# Altium integrated library Texas Instruments Power Management PWM Controller.IntLib: 1227 symbols (part 35 of 49)
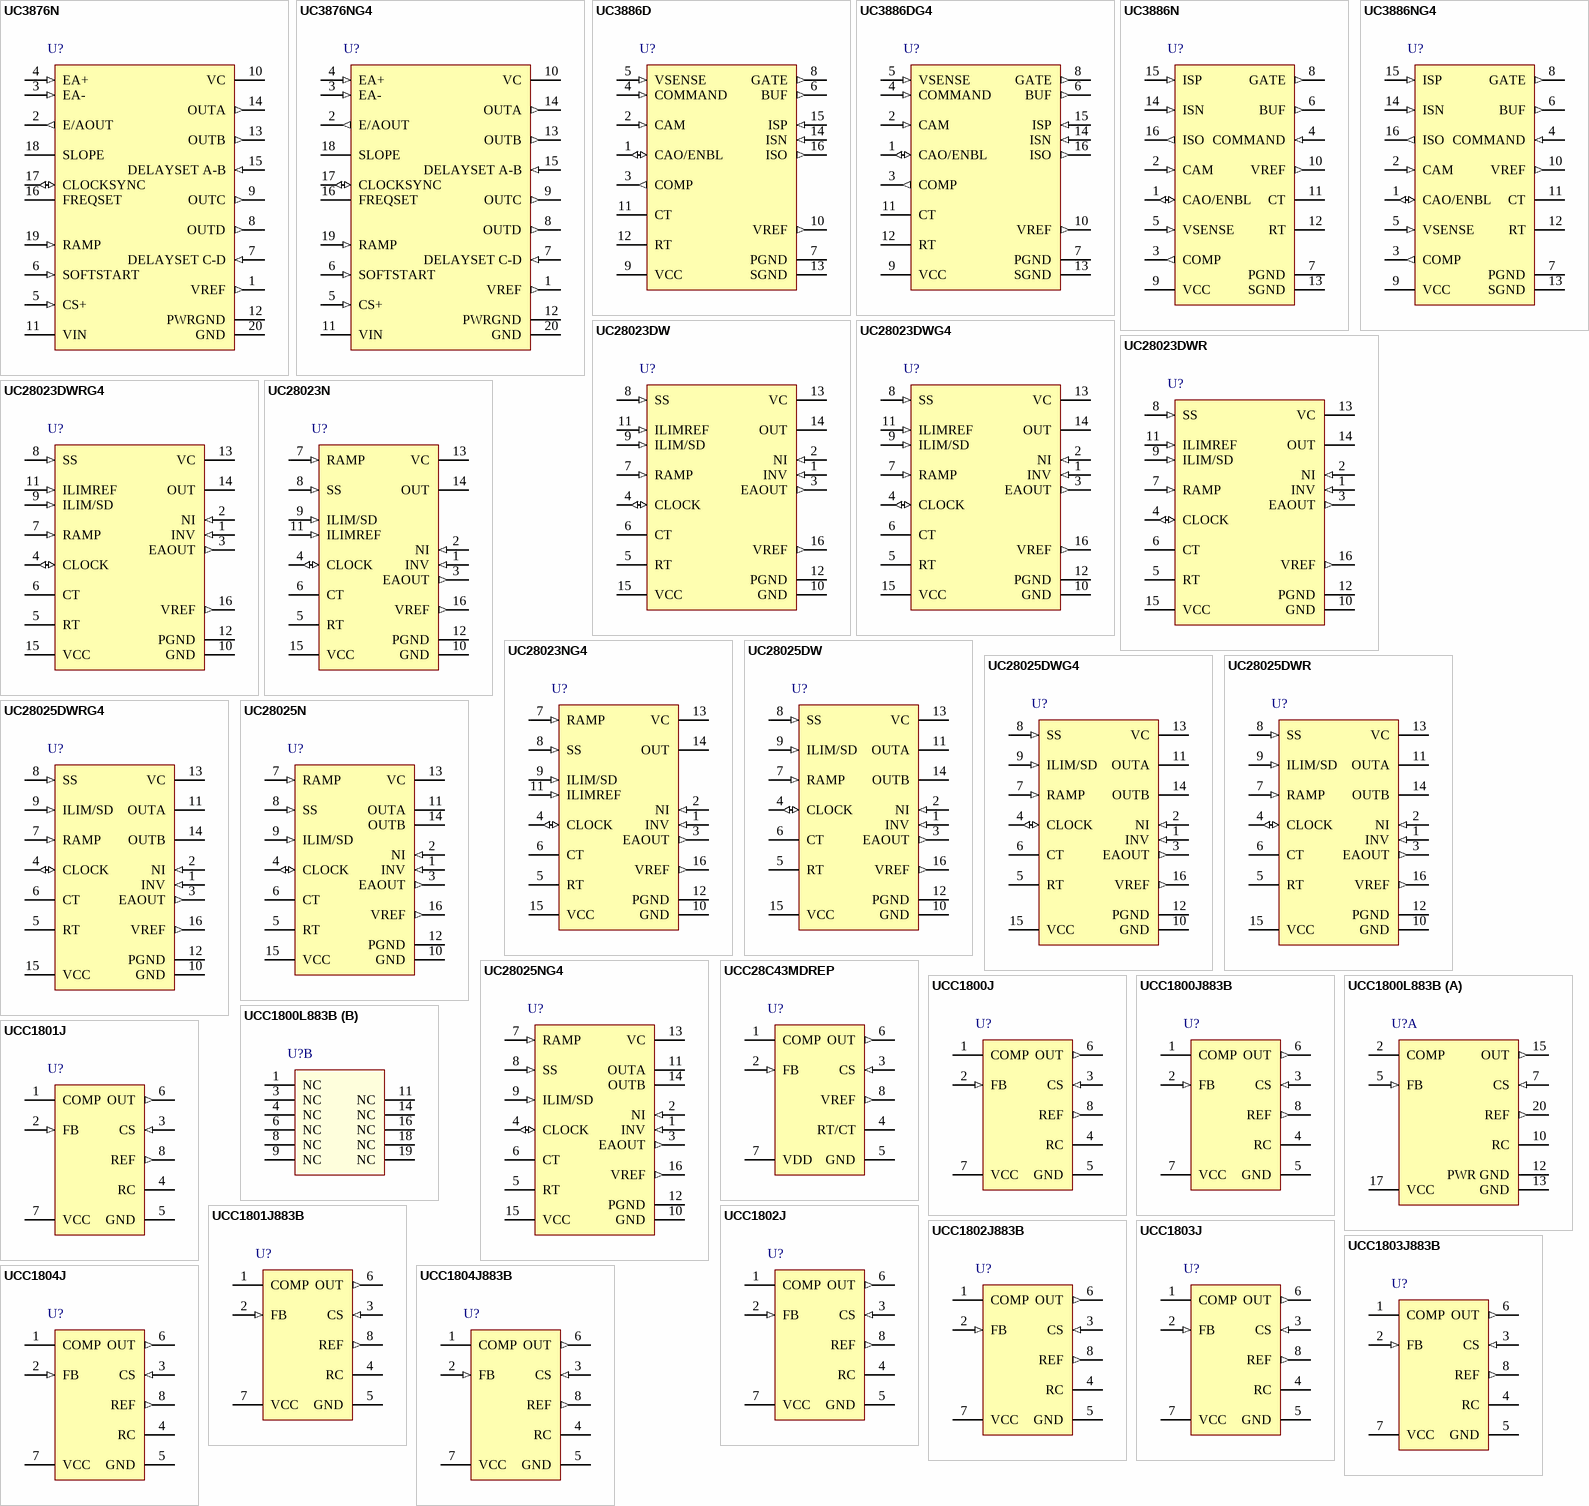
[diagram p77: symbols UC3876N to UCC1804J883B]

## UCC1800J
designator U?
Low-Power BiCMOS PWM with Current Control, 100 % Duty Cycle, -55 to +125 degC, 8-pin CDIP (JG); PartNumber: UCC1800J; Manufacturer: Texas Instruments; Duty Cycle(Max)(%): 100; Eco-Plan: TBD; Frequency(Max)(kHz): 1000; Rating: Military; Regulated Outputs(#): 1; SubFamily: PWM Controller; Topology: Boost, Flyback, Forward; UVLO Thresholds On/Off(V): 7.2/6.9; DatasheetVersion: SLUS270D; PackageVersion: revC, Aug-1996; PackageReference: JG8; PackageDescription: 8-Pin Ceramic Dual-In-Line Package, Row Spacing 7.62 mm, Pitch 2.54 mm; Control Method: Current; Mounting Technology: Through Hole; ComponentLink1Description: Datasheet; ComponentLink1URL: http://www.ti.com/general/docs/lit/getliterature.tsp?genericPartNumber=UCC1800&fileType=pdf
footprint JG8 (DIP, 8-Leads, Row Spacing 7.62mm, Pitch 2.54mm, Body 9.6x6.7mm)
pins: 1 COMP "COMP is the output of the error amplifier and the input of the PWM comparator.", 2 FB (in) "FB is the inverting input of the error amplifier.For best stability,keep FB lead length as short as possible and FB stray capacitance as small as possible.", 3 CS (in) "CS is the input to the current sense comparators.The UCC3800 family has two different current sense comparators:the PWM comparator and an over-current comparator.", 4 RC "RC is the oscillator timing pin.For fixed frequency operation,set timing capacitor charging current by connecting a resistor from REF to RC.Set frequency by connecting a timing capacitor from RC to GND.", 5 GND (power) "GND is reference ground and power ground for all functions on this part.", 6 OUT (out) "OUT is the output of a high-current power driver capable of driving the gate of a power MOSFET with peak currents exceeding +/-750mA.OUT is actively held low when VCC is below the UVLO threshold.", 7 VCC (power) "VCC is the power input connection for this device.", 8 REF (out) "REF is the voltage reference for the error amplifier and also for many other functions on the IC.REF is also used as the logic power supply for high speed switching logic on the IC."

## UCC1800J883B
designator U?
Low-Power BiCMOS PWM with Current Control, 100 % Duty Cycle, -55 to +125 degC, 8-pin CDIP (JG); PartNumber: UCC1800J883B; Manufacturer: Texas Instruments; Duty Cycle(Max)(%): 100; Eco-Plan: TBD; Frequency(Max)(kHz): 1000; Rating: Military; Regulated Outputs(#): 1; SubFamily: PWM Controller; Topology: Boost, Flyback, Forward; UVLO Thresholds On/Off(V): 7.2/6.9; DatasheetVersion: SLUS270D; PackageVersion: revC, Aug-1996; PackageReference: JG8; PackageDescription: 8-Pin Ceramic Dual-In-Line Package, Row Spacing 7.62 mm, Pitch 2.54 mm; Control Method: Current; Mounting Technology: Through Hole; ComponentLink1Description: Datasheet; ComponentLink1URL: http://www.ti.com/general/docs/lit/getliterature.tsp?genericPartNumber=UCC1800&fileType=pdf
footprint JG8 (DIP, 8-Leads, Row Spacing 7.62mm, Pitch 2.54mm, Body 9.6x6.7mm)
pins: 1 COMP "COMP is the output of the error amplifier and the input of the PWM comparator.", 2 FB (in) "FB is the inverting input of the error amplifier.For best stability,keep FB lead length as short as possible and FB stray capacitance as small as possible.", 3 CS (in) "CS is the input to the current sense comparators.The UCC3800 family has two different current sense comparators:the PWM comparator and an over-current comparator.", 4 RC "RC is the oscillator timing pin.For fixed frequency operation,set timing capacitor charging current by connecting a resistor from REF to RC.Set frequency by connecting a timing capacitor from RC to GND.", 5 GND (power) "GND is reference ground and power ground for all functions on this part.", 6 OUT (out) "OUT is the output of a high-current power driver capable of driving the gate of a power MOSFET with peak currents exceeding +/-750mA.OUT is actively held low when VCC is below the UVLO threshold.", 7 VCC (power) "VCC is the power input connection for this device.", 8 REF (out) "REF is the voltage reference for the error amplifier and also for many other functions on the IC.REF is also used as the logic power supply for high speed switching logic on the IC."

## UCC1800L883B
designator U?
Low-Power BiCMOS PWM with Current Control, 100 % Duty Cycle, -55 to +125 degC, 20-pin LCCC (FK); PartNumber: UCC1800L883B; Manufacturer: Texas Instruments; Duty Cycle(Max)(%): 100; Eco-Plan: TBD; Frequency(Max)(kHz): 1000; Rating: Military; Regulated Outputs(#): 1; SubFamily: PWM Controller; Topology: Boost, Flyback, Forward; UVLO Thresholds On/Off(V): 7.2/6.9; DatasheetVersion: SLUS270D; PackageVersion: revD, Jan-2011; PackageReference: FK20; PackageDescription: 20-Pin Leadless Ceramic Chip Carrier, 1.27 mm Pitch; Control Method: Current; Mounting Technology: Surface Mount; Code_JEDEC: MS-004; ComponentLink1Description: Datasheet; ComponentLink1URL: http://www.ti.com/general/docs/lit/getliterature.tsp?genericPartNumber=UCC1800&fileType=pdf
footprint FK20_N (Leadless Chip Carrier, 20-Leads, Body 8.9x8.9mm, Pitch 1.27mm, IPC Medium Density)
footprint FK20_L (Leadless Chip Carrier, 20-Leads, Body 8.9x8.9mm, Pitch 1.27mm, IPC High Density)
footprint FK20_M (Leadless Chip Carrier, 20-Leads, Body 8.9x8.9mm, Pitch 1.27mm, IPC Low Density)
part A pins: 2 COMP "COMP is the output of the error amplifier and the input of the PWM comparator.", 5 FB (in) "FB is the inverting input of the error amplifier.For best stability,keep FB lead length as short as possible and FB stray capacitance as small as possible.", 7 CS (in) "CS is the input to the current sense comparators.The UCC3800 family has two different current sense comparators:the PWM comparator and an over-current comparator.", 10 RC "RC is the oscillator timing pin.For fixed frequency operation,set timing capacitor charging current by connecting a resistor from REF to RC.Set frequency by connecting a timing capacitor from RC to GND.", 12 PWR GND (power), 13 GND (power) "GND is reference ground and power ground for all functions on this part.", 15 OUT (out) "OUT is the output of a high-current power driver capable of driving the gate of a power MOSFET with peak currents exceeding +/-750mA.OUT is actively held low when VCC is below the UVLO threshold.", 17 VCC (power) "VCC is the power input connection for this device.", 20 REF (out) "REF is the voltage reference for the error amplifier and also for many other functions on the IC.REF is also used as the logic power supply for high speed switching logic on the IC."
part B pins: 1 NC "Not connect.", 3 NC "Not connect.", 4 NC "Not connect.", 6 NC "Not connect.", 8 NC "Not connect.", 9 NC "Not connect.", 11 NC "Not connect.", 14 NC "Not connect.", 16 NC "Not connect.", 18 NC "Not connect.", 19 NC "Not connect."

## UCC1801J
designator U?
Low-Power BiCMOS PWM with Current control, 50 % Duty Cycle, -55 to +125 degC, 8-pin CDIP (JG); PartNumber: UCC1801J; Manufacturer: Texas Instruments; Duty Cycle(Max)(%): 50; Eco-Plan: TBD; Frequency(Max)(kHz): 1000; Rating: Military; Regulated Outputs(#): 1; SubFamily: PWM Controller; Topology: Boost, Flyback, Forward; UVLO Thresholds On/Off(V): 9.4/7.4; DatasheetVersion: SLUS270D; PackageVersion: revC, Aug-1996; PackageReference: JG8; PackageDescription: 8-Pin Ceramic Dual-In-Line Package, Row Spacing 7.62 mm, Pitch 2.54 mm; Control Method: Current; Mounting Technology: Through Hole; ComponentLink1Description: Datasheet; ComponentLink1URL: http://www.ti.com/general/docs/lit/getliterature.tsp?genericPartNumber=UCC1801&fileType=pdf
footprint JG8 (DIP, 8-Leads, Row Spacing 7.62mm, Pitch 2.54mm, Body 9.6x6.7mm)
pins: 1 COMP "COMP is the output of the error amplifier and the input of the PWM comparator.", 2 FB (in) "FB is the inverting input of the error amplifier.For best stability,keep FB lead length as short as possible and FB stray capacitance as small as possible.", 3 CS (in) "CS is the input to the current sense comparators.The UCC3800 family has two different current sense comparators:the PWM comparator and an over-current comparator.", 4 RC "RC is the oscillator timing pin.For fixed frequency operation,set timing capacitor charging current by connecting a resistor from REF to RC.Set frequency by connecting a timing capacitor from RC to GND.", 5 GND (power) "GND is reference ground and power ground for all functions on this part.", 6 OUT (out) "OUT is the output of a high-current power driver capable of driving the gate of a power MOSFET with peak currents exceeding +/-750mA.OUT is actively held low when VCC is below the UVLO threshold.", 7 VCC (power) "VCC is the power input connection for this device.", 8 REF (out) "REF is the voltage reference for the error amplifier and also for many other functions on the IC.REF is also used as the logic power supply for high speed switching logic on the IC."

## UCC1801J883B
designator U?
Low-Power BiCMOS PWM with Current Control, 50 % Duty Cycle, -55 to +125 degC, 8-pin CDIP (JG); PartNumber: UCC1801J883B; Manufacturer: Texas Instruments; Duty Cycle(Max)(%): 50; Eco-Plan: TBD; Frequency(Max)(kHz): 1000; Rating: Military; Regulated Outputs(#): 1; SubFamily: PWM Controller; Topology: Boost, Flyback, Forward; UVLO Thresholds On/Off(V): 9.4/7.4; DatasheetVersion: SLUS270D; PackageVersion: revC, Aug-1996; PackageReference: JG8; PackageDescription: 8-Pin Ceramic Dual-In-Line Package, Row Spacing 7.62 mm, Pitch 2.54 mm; Control Method: Current; Mounting Technology: Through Hole; ComponentLink1Description: Datasheet; ComponentLink1URL: http://www.ti.com/general/docs/lit/getliterature.tsp?genericPartNumber=UCC1801&fileType=pdf
footprint JG8 (DIP, 8-Leads, Row Spacing 7.62mm, Pitch 2.54mm, Body 9.6x6.7mm)
pins: 1 COMP "COMP is the output of the error amplifier and the input of the PWM comparator.", 2 FB (in) "FB is the inverting input of the error amplifier.For best stability,keep FB lead length as short as possible and FB stray capacitance as small as possible.", 3 CS (in) "CS is the input to the current sense comparators.The UCC3800 family has two different current sense comparators:the PWM comparator and an over-current comparator.", 4 RC "RC is the oscillator timing pin.For fixed frequency operation,set timing capacitor charging current by connecting a resistor from REF to RC.Set frequency by connecting a timing capacitor from RC to GND.", 5 GND (power) "GND is reference ground and power ground for all functions on this part.", 6 OUT (out) "OUT is the output of a high-current power driver capable of driving the gate of a power MOSFET with peak currents exceeding +/-750mA.OUT is actively held low when VCC is below the UVLO threshold.", 7 VCC (power) "VCC is the power input connection for this device.", 8 REF (out) "REF is the voltage reference for the error amplifier and also for many other functions on the IC.REF is also used as the logic power supply for high speed switching logic on the IC."

## UCC1802J
designator U?
Low-Power BiCMOS PWM with Current Control, 100 % Duty Cycle, -55 to +125 degC, 8-pin CDIP (JG); PartNumber: UCC1802J; Manufacturer: Texas Instruments; Duty Cycle(Max)(%): 100; Eco-Plan: TBD; Frequency(Max)(kHz): 1000; Rating: Military; Regulated Outputs(#): 1; SubFamily: PWM Controller; Topology: Boost, Flyback, Forward; UVLO Thresholds On/Off(V): 12.5/8.3; DatasheetVersion: SLUS270D; PackageVersion: revC, Aug-1996; PackageReference: JG8; PackageDescription: 8-Pin Ceramic Dual-In-Line Package, Row Spacing 7.62 mm, Pitch 2.54 mm; Control Method: Current; Mounting Technology: Through Hole; ComponentLink1Description: Datasheet; ComponentLink1URL: http://www.ti.com/general/docs/lit/getliterature.tsp?genericPartNumber=UCC1802&fileType=pdf
footprint JG8 (DIP, 8-Leads, Row Spacing 7.62mm, Pitch 2.54mm, Body 9.6x6.7mm)
pins: 1 COMP "COMP is the output of the error amplifier and the input of the PWM comparator.", 2 FB (in) "FB is the inverting input of the error amplifier.For best stability,keep FB lead length as short as possible and FB stray capacitance as small as possible.", 3 CS (in) "CS is the input to the current sense comparators.The UCC3800 family has two different current sense comparators:the PWM comparator and an over-current comparator.", 4 RC "RC is the oscillator timing pin.For fixed frequency operation,set timing capacitor charging current by connecting a resistor from REF to RC.Set frequency by connecting a timing capacitor from RC to GND.", 5 GND (power) "GND is reference ground and power ground for all functions on this part.", 6 OUT (out) "OUT is the output of a high-current power driver capable of driving the gate of a power MOSFET with peak currents exceeding +/-750mA.OUT is actively held low when VCC is below the UVLO threshold.", 7 VCC (power) "VCC is the power input connection for this device.", 8 REF (out) "REF is the voltage reference for the error amplifier and also for many other functions on the IC.REF is also used as the logic power supply for high speed switching logic on the IC."

## UCC1802J883B
designator U?
Low-Power BiCMOS PWM with Current Control, 100 % Duty Cycle, -55 to +125 degC, 8-pin CDIP (JG); PartNumber: UCC1802J883B; Manufacturer: Texas Instruments; Duty Cycle(Max)(%): 100; Eco-Plan: TBD; Frequency(Max)(kHz): 1000; Rating: Military; Regulated Outputs(#): 1; SubFamily: PWM Controller; Topology: Boost, Flyback, Forward; UVLO Thresholds On/Off(V): 12.5/8.3; DatasheetVersion: SLUS270D; PackageVersion: revC, Aug-1996; PackageReference: JG8; PackageDescription: 8-Pin Ceramic Dual-In-Line Package, Row Spacing 7.62 mm, Pitch 2.54 mm; Control Method: Current; Mounting Technology: Through Hole; ComponentLink1Description: Datasheet; ComponentLink1URL: http://www.ti.com/general/docs/lit/getliterature.tsp?genericPartNumber=UCC1802&fileType=pdf
footprint JG8 (DIP, 8-Leads, Row Spacing 7.62mm, Pitch 2.54mm, Body 9.6x6.7mm)
pins: 1 COMP "COMP is the output of the error amplifier and the input of the PWM comparator.", 2 FB (in) "FB is the inverting input of the error amplifier.For best stability,keep FB lead length as short as possible and FB stray capacitance as small as possible.", 3 CS (in) "CS is the input to the current sense comparators.The UCC3800 family has two different current sense comparators:the PWM comparator and an over-current comparator.", 4 RC "RC is the oscillator timing pin.For fixed frequency operation,set timing capacitor charging current by connecting a resistor from REF to RC.Set frequency by connecting a timing capacitor from RC to GND.", 5 GND (power) "GND is reference ground and power ground for all functions on this part.", 6 OUT (out) "OUT is the output of a high-current power driver capable of driving the gate of a power MOSFET with peak currents exceeding +/-750mA.OUT is actively held low when VCC is below the UVLO threshold.", 7 VCC (power) "VCC is the power input connection for this device.", 8 REF (out) "REF is the voltage reference for the error amplifier and also for many other functions on the IC.REF is also used as the logic power supply for high speed switching logic on the IC."

## UCC1803J
designator U?
Low-Power BiCMOS PWM with Current Control, 100 % Duty Cycle, -55 to +125 degC, 8-pin CDIP (JG); PartNumber: UCC1803J; Manufacturer: Texas Instruments; Duty Cycle(Max)(%): 100; Eco-Plan: TBD; Frequency(Max)(kHz): 1000; Rating: Military; Regulated Outputs(#): 1; SubFamily: PWM Controller; Topology: Boost, Flyback, Forward; UVLO Thresholds On/Off(V): 4.1/3.6; DatasheetVersion: SLUS270D; PackageVersion: revC, Aug-1996; PackageReference: JG8; PackageDescription: 8-Pin Ceramic Dual-In-Line Package, Row Spacing 7.62 mm, Pitch 2.54 mm; Control Method: Current; Mounting Technology: Through Hole; ComponentLink1Description: Datasheet; ComponentLink1URL: http://www.ti.com/general/docs/lit/getliterature.tsp?genericPartNumber=UCC1803&fileType=pdf
footprint JG8 (DIP, 8-Leads, Row Spacing 7.62mm, Pitch 2.54mm, Body 9.6x6.7mm)
pins: 1 COMP "COMP is the output of the error amplifier and the input of the PWM comparator.", 2 FB (in) "FB is the inverting input of the error amplifier.For best stability,keep FB lead length as short as possible and FB stray capacitance as small as possible.", 3 CS (in) "CS is the input to the current sense comparators.The UCC3800 family has two different current sense comparators:the PWM comparator and an over-current comparator.", 4 RC "RC is the oscillator timing pin.For fixed frequency operation,set timing capacitor charging current by connecting a resistor from REF to RC.Set frequency by connecting a timing capacitor from RC to GND.", 5 GND (power) "GND is reference ground and power ground for all functions on this part.", 6 OUT (out) "OUT is the output of a high-current power driver capable of driving the gate of a power MOSFET with peak currents exceeding +/-750mA.OUT is actively held low when VCC is below the UVLO threshold.", 7 VCC (power) "VCC is the power input connection for this device.", 8 REF (out) "REF is the voltage reference for the error amplifier and also for many other functions on the IC.REF is also used as the logic power supply for high speed switching logic on the IC."

## UCC1803J883B
designator U?
Low-Power BiCMOS PWM with Current Control, 100 % Duty Cycle, -55 to +125 degC, 8-pin CDIP (JG); PartNumber: UCC1803J883B; Manufacturer: Texas Instruments; Duty Cycle(Max)(%): 100; Eco-Plan: TBD; Frequency(Max)(kHz): 1000; Rating: Military; Regulated Outputs(#): 1; SubFamily: PWM Controller; Topology: Boost, Flyback, Forward; UVLO Thresholds On/Off(V): 4.1/3.6; DatasheetVersion: SLUS270D; PackageVersion: revC, Aug-1996; PackageReference: JG8; PackageDescription: 8-Pin Ceramic Dual-In-Line Package, Row Spacing 7.62 mm, Pitch 2.54 mm; Control Method: Current; Mounting Technology: Through Hole; ComponentLink1Description: Datasheet; ComponentLink1URL: http://www.ti.com/general/docs/lit/getliterature.tsp?genericPartNumber=UCC1803&fileType=pdf
footprint JG8 (DIP, 8-Leads, Row Spacing 7.62mm, Pitch 2.54mm, Body 9.6x6.7mm)
pins: 1 COMP "COMP is the output of the error amplifier and the input of the PWM comparator.", 2 FB (in) "FB is the inverting input of the error amplifier.For best stability,keep FB lead length as short as possible and FB stray capacitance as small as possible.", 3 CS (in) "CS is the input to the current sense comparators.The UCC3800 family has two different current sense comparators:the PWM comparator and an over-current comparator.", 4 RC "RC is the oscillator timing pin.For fixed frequency operation,set timing capacitor charging current by connecting a resistor from REF to RC.Set frequency by connecting a timing capacitor from RC to GND.", 5 GND (power) "GND is reference ground and power ground for all functions on this part.", 6 OUT (out) "OUT is the output of a high-current power driver capable of driving the gate of a power MOSFET with peak currents exceeding +/-750mA.OUT is actively held low when VCC is below the UVLO threshold.", 7 VCC (power) "VCC is the power input connection for this device.", 8 REF (out) "REF is the voltage reference for the error amplifier and also for many other functions on the IC.REF is also used as the logic power supply for high speed switching logic on the IC."

## UCC1804J
designator U?
Low-Power BiCMOS PWM with Current Control, 50 % Duty Cycle, -55 to +125 degC, 8-pin CDIP (JG); PartNumber: UCC1804J; Manufacturer: Texas Instruments; Duty Cycle(Max)(%): 50; Eco-Plan: TBD; Frequency(Max)(kHz): 1000; Rating: Military; Regulated Outputs(#): 1; SubFamily: PWM Controller; Topology: Boost, Flyback, Forward; UVLO Thresholds On/Off(V): 12.5/8.3; DatasheetVersion: SLUS270D; PackageVersion: revC, Aug-1996; PackageReference: JG8; PackageDescription: 8-Pin Ceramic Dual-In-Line Package, Row Spacing 7.62 mm, Pitch 2.54 mm; Control Method: Current; Mounting Technology: Through Hole; ComponentLink1Description: Datasheet; ComponentLink1URL: http://www.ti.com/general/docs/lit/getliterature.tsp?genericPartNumber=UCC1804&fileType=pdf
footprint JG8 (DIP, 8-Leads, Row Spacing 7.62mm, Pitch 2.54mm, Body 9.6x6.7mm)
pins: 1 COMP "COMP is the output of the error amplifier and the input of the PWM comparator", 2 FB (in) "FB is the inverting input of the error amplifier.For best stability,keep FB lead length as short as possible and FB stray capacitance as samll as possible", 3 CS (in) "CS is the input to the current sense comparators.The UCC3800 family has two different current sense comparators:the PWM comparator and an over-current comparator", 4 RC "RC is the oscillator timing pin", 5 GND (power) "GND is reference ground and power ground for all functions on this part", 6 OUT (out) "OUT is the output of a high-current power driver capable of driving the gate of a power MOSFET with peak currents excedding +/-750mA", 7 VCC (power) "The power input connect for this device", 8 REF (out) "The voltage reference for the error amplifier and also for many other functions on the IC"

## UCC1804J883B
designator U?
Low-Power BiCMOS PWM with Current Control, 50 % Duty Cycle, -55 to +125 degC, 8-pin CDIP (JG); PartNumber: UCC1804J883B; Manufacturer: Texas Instruments; Duty Cycle(Max)(%): 50; Eco-Plan: TBD; Frequency(Max)(kHz): 1000; Rating: Military; Regulated Outputs(#): 1; SubFamily: PWM Controller; Topology: Boost, Flyback, Forward; UVLO Thresholds On/Off(V): 12.5/8.3; DatasheetVersion: SLUS270D; PackageVersion: revC, Aug-1996; PackageReference: JG8; PackageDescription: 8-Pin Ceramic Dual-In-Line Package, Row Spacing 7.62 mm, Pitch 2.54 mm; Control Method: Current; Mounting Technology: Through Hole; ComponentLink1Description: Datasheet; ComponentLink1URL: http://www.ti.com/general/docs/lit/getliterature.tsp?genericPartNumber=UCC1804&fileType=pdf
footprint JG8 (DIP, 8-Leads, Row Spacing 7.62mm, Pitch 2.54mm, Body 9.6x6.7mm)
pins: 1 COMP "COMP is the output of the error amplifier and the input of the PWM comparator", 2 FB (in) "FB is the inverting input of the error amplifier.For best stability,keep FB lead length as short as possible and FB stray capacitance as samll as possible", 3 CS (in) "CS is the input to the current sense comparators.The UCC3800 family has two different current sense comparators:the PWM comparator and an over-current comparator", 4 RC "RC is the oscillator timing pin", 5 GND (power) "GND is reference ground and power ground for all functions on this part", 6 OUT (out) "OUT is the output of a high-current power driver capable of driving the gate of a power MOSFET with peak currents excedding +/-750mA", 7 VCC (power) "The power input connect for this device", 8 REF (out) "The voltage reference for the error amplifier and also for many other functions on the IC"

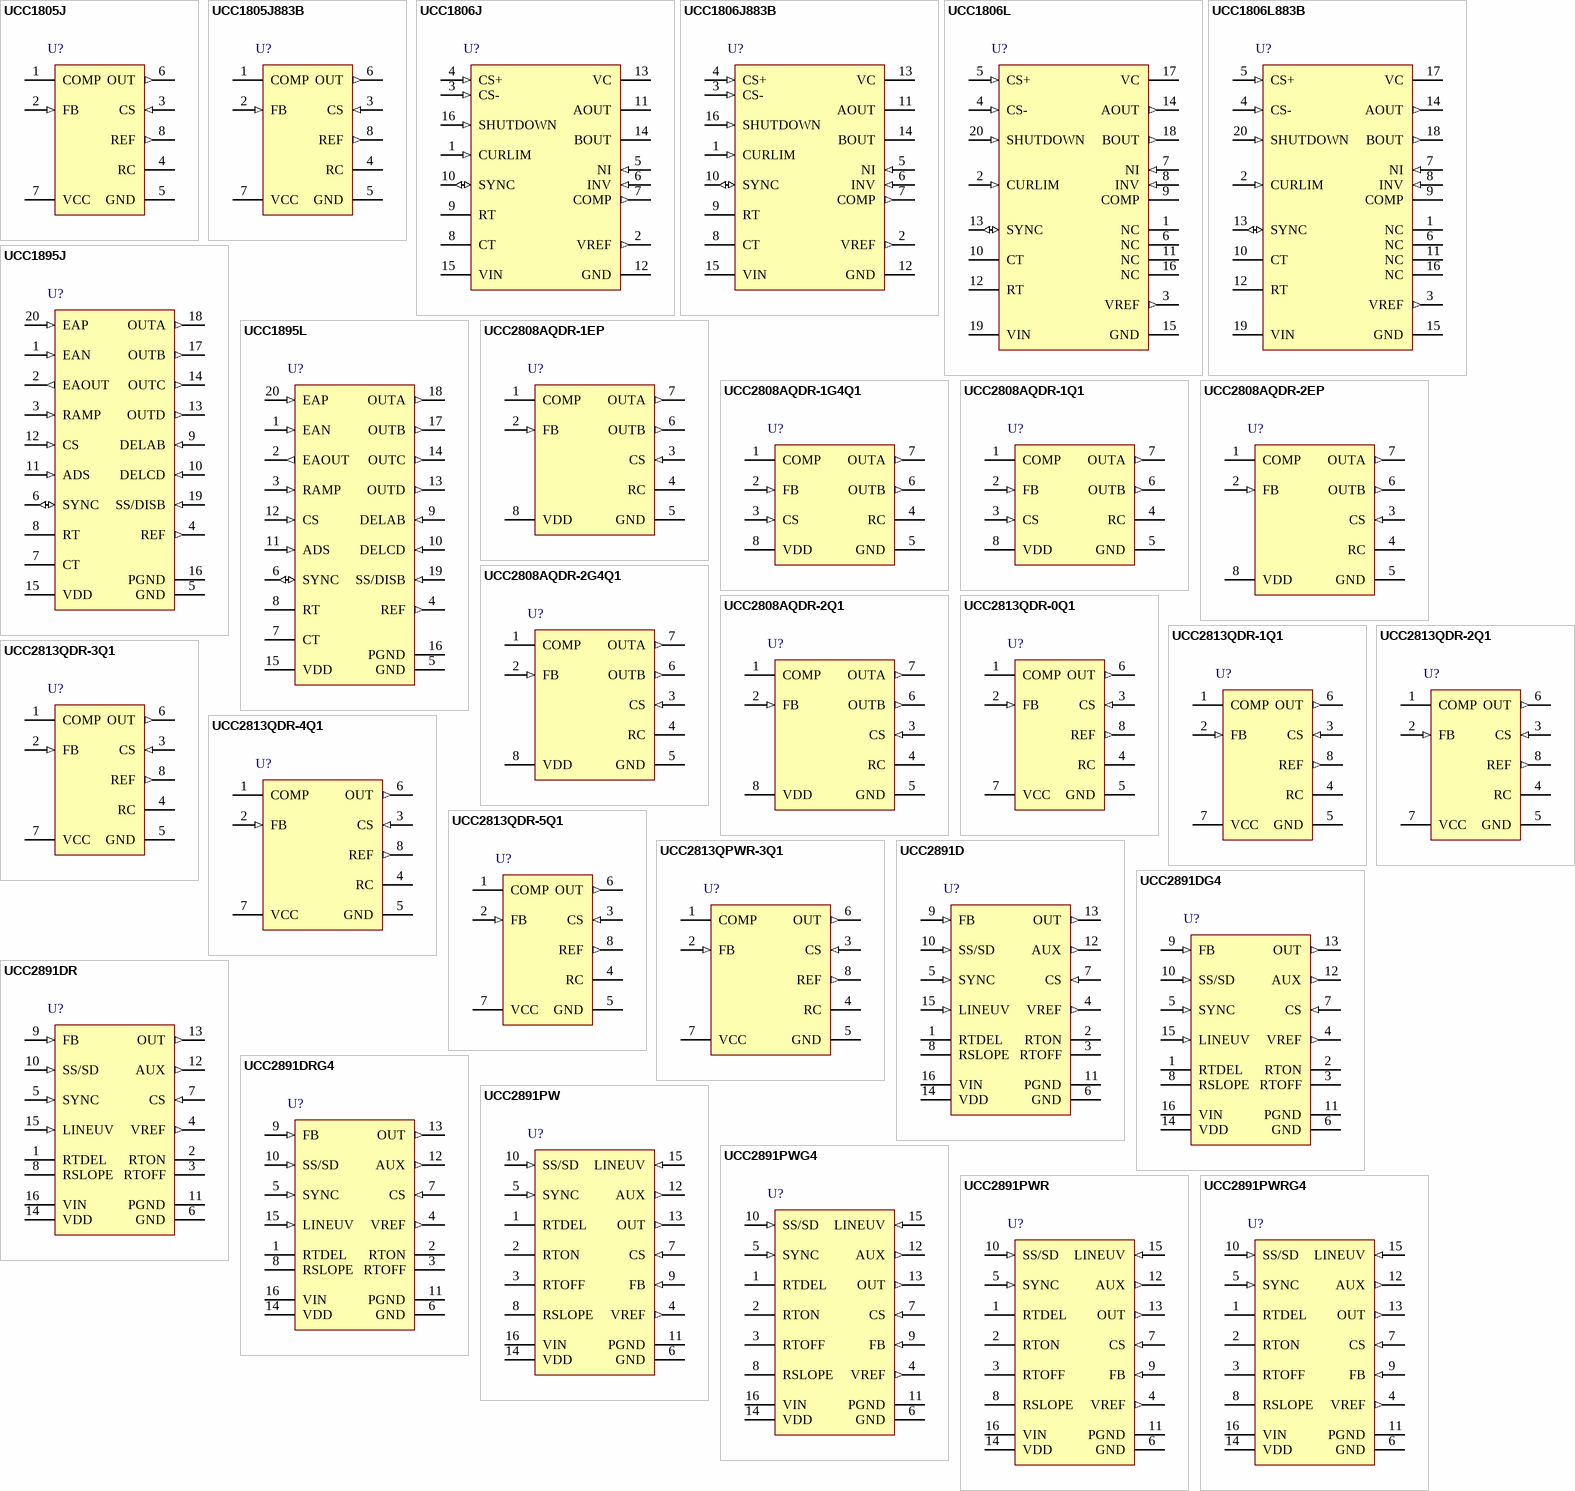
[diagram p37: symbols UCC1805J to UCC2891PWRG4]

## UCC1805J
designator U?
Low-Power BiCMOS PWM with Current Control, 50 % Duty Cycle, -55 to +125 degC, 8-pin CDIP (JG); PartNumber: UCC1805J; Manufacturer: Texas Instruments; Duty Cycle(Max)(%): 50; Eco-Plan: TBD; Frequency(Max)(kHz): 1000; Rating: Military; Regulated Outputs(#): 1; SubFamily: PWM Controller; Topology: Boost, Flyback, Forward; UVLO Thresholds On/Off(V): 4.1/3.6; DatasheetVersion: SLUS270D; PackageVersion: revC, Aug-1996; PackageReference: JG8; PackageDescription: 8-Pin Ceramic Dual-In-Line Package, Row Spacing 7.62 mm, Pitch 2.54 mm; Control Method: Current; Mounting Technology: Through Hole; ComponentLink1Description: Datasheet; ComponentLink1URL: http://www.ti.com/general/docs/lit/getliterature.tsp?genericPartNumber=UCC1805&fileType=pdf
footprint JG8 (DIP, 8-Leads, Row Spacing 7.62mm, Pitch 2.54mm, Body 9.6x6.7mm)
pins: 1 COMP "COMP is the output of the error amplifier and the input of the PWM comparator", 2 FB (in) "FB is the inverting input of the error amplifier.For best stability,keep FB lead length as short as possible and FB stray capacitance as samll as possible", 3 CS (in) "CS is the input to the current sense comparators.The UCC3800 family has two different current sense comparators:the PWM comparator and an over-current comparator", 4 RC "RC is the oscillator timing pin", 5 GND (power) "GND is reference ground and power ground for all functions on this part", 6 OUT (out) "OUT is the output of a high-current power driver capable of driving the gate of a power MOSFET with peak currents excedding +/-750mA", 7 VCC (power) "The power input connect for this device", 8 REF (out) "The voltage reference for the error amplifier and also for many other functions on the IC"

## UCC1805J883B
designator U?
Low-Power BiCMOS PWM with Current Control, 50 % Duty Cycle, -55 to +125 degC, 8-pin CDIP (JG); PartNumber: UCC1805J883B; Manufacturer: Texas Instruments; Duty Cycle(Max)(%): 50; Eco-Plan: TBD; Frequency(Max)(kHz): 1000; Rating: Military; Regulated Outputs(#): 1; SubFamily: PWM Controller; Topology: Boost, Flyback, Forward; UVLO Thresholds On/Off(V): 4.1/3.6; DatasheetVersion: SLUS270D; PackageVersion: revC, Aug-1996; PackageReference: JG8; PackageDescription: 8-Pin Ceramic Dual-In-Line Package, Row Spacing 7.62 mm, Pitch 2.54 mm; Control Method: Current; Mounting Technology: Through Hole; ComponentLink1Description: Datasheet; ComponentLink1URL: http://www.ti.com/general/docs/lit/getliterature.tsp?genericPartNumber=UCC1805&fileType=pdf
footprint JG8 (DIP, 8-Leads, Row Spacing 7.62mm, Pitch 2.54mm, Body 9.6x6.7mm)
pins: 1 COMP "COMP is the output of the error amplifier and the input of the PWM comparator", 2 FB (in) "FB is the inverting input of the error amplifier.For best stability,keep FB lead length as short as possible and FB stray capacitance as samll as possible", 3 CS (in) "CS is the input to the current sense comparators.The UCC3800 family has two different current sense comparators:the PWM comparator and an over-current comparator", 4 RC "RC is the oscillator timing pin", 5 GND (power) "GND is reference ground and power ground for all functions on this part", 6 OUT (out) "OUT is the output of a high-current power driver capable of driving the gate of a power MOSFET with peak currents excedding +/-750mA", 7 VCC (power) "The power input connect for this device", 8 REF (out) "The voltage reference for the error amplifier and also for many other functions on the IC"

## UCC1806J
designator U?
Low-Power Dual-Output PWM Controller with Current Control, 50 % Duty Cycle, -55 to +125 degC, 16-pin CDIP (J); PartNumber: UCC1806J; Manufacturer: Texas Instruments; Duty Cycle(Max)(%): 50; Eco-Plan: TBD; Frequency(Max)(kHz): 1000; Rating: Military; Regulated Outputs(#): 2; Topology: Boost, Flyback, Forward; UVLO Thresholds On/Off(V): 7.5/6.75; DatasheetVersion: SLUS272F; PackageVersion: revF, Mar-2003; PackageReference: J16; PackageDescription: 16-Pin, Ceramic Dual In-Line Package, Row Spacing 7.62 mm, Pitch 2.54 mm; Control Method: Current; SubFamily: PWM Controller; Mounting Technology: Through Hole; ComponentLink1Description: Datasheet; ComponentLink1URL: http://www.ti.com/general/docs/lit/getliterature.tsp?genericPartNumber=UCC1806&fileType=pdf
footprint J16 (DIP, 16-Leads, Row Spacing 7.62mm, Pitch 2.54mm, Body 21.3x6.9mm)
pins: 1 CURLIM (in) "Programs the primary current limit threshold that determins latching or retry after an overcurrent situation", 2 VREF (out) "Reference output.", 3 CS- (in) "Inverting input of the 3x, differential current sense amplifier", 4 CS+ (in) "Non-inverting input of the 3x, differential current sense amplifier", 5 NI (in) "Non-nverting input of the error amplifier.", 6 INV (in) "Inverting input of the error amplifier.", 7 COMP (out) "Output of the error amplifier", 8 CT "Oscillator timing capacitor connection point", 9 RT "Connection point for the oscillator timing resistor", 10 SYNC (io) "Allows providing external synchronization with TTL compatible thresholds.", 11 AOUT "High current gate drive for the external MOSFETs", 12 GND (power) "Reference ground and power ground for all functions of this device", 13 VC (power) "Input supply connection for the FET drive outputs.", 14 BOUT "High current gate drive for the external MOSFETs", 15 VIN (power) "Input supply connection for this device.", 16 SHUTDOWN (in) "Provided for enhanced protection. When SHUTDOWN is driven above 1 V, AOUT and BOUT are forced low."

## UCC1806J883B
designator U?
Low-Power Dual-Output PWM Controller with Current Control, 50 % Duty Cycle, -55 to +125 degC, 16-pin CDIP (J); PartNumber: UCC1806J883B; Manufacturer: Texas Instruments; Duty Cycle(Max)(%): 50; Eco-Plan: TBD; Frequency(Max)(kHz): 1000; Rating: Military; Regulated Outputs(#): 2; Topology: Boost, Flyback, Forward; UVLO Thresholds On/Off(V): 7.5/6.75; DatasheetVersion: SLUS272F; PackageVersion: revF, Mar-2003; PackageReference: J16; PackageDescription: 16-Pin, Ceramic Dual In-Line Package, Row Spacing 7.62 mm, Pitch 2.54 mm; Control Method: Current; SubFamily: PWM Controller; Mounting Technology: Through Hole; ComponentLink1Description: Datasheet; ComponentLink1URL: http://www.ti.com/general/docs/lit/getliterature.tsp?genericPartNumber=UCC1806&fileType=pdf
footprint J16 (DIP, 16-Leads, Row Spacing 7.62mm, Pitch 2.54mm, Body 21.3x6.9mm)
pins: 1 CURLIM (in) "Programs the primary current limit threshold that determins latching or retry after an overcurrent situation", 2 VREF (out) "Reference output.", 3 CS- (in) "Inverting input of the 3x, differential current sense amplifier", 4 CS+ (in) "Non-inverting input of the 3x, differential current sense amplifier", 5 NI (in) "Non-nverting input of the error amplifier.", 6 INV (in) "Inverting input of the error amplifier.", 7 COMP (out) "Output of the error amplifier", 8 CT "Oscillator timing capacitor connection point", 9 RT "Connection point for the oscillator timing resistor", 10 SYNC (io) "Allows providing external synchronization with TTL compatible thresholds.", 11 AOUT "High current gate drive for the external MOSFETs", 12 GND (power) "Reference ground and power ground for all functions of this device", 13 VC (power) "Input supply connection for the FET drive outputs.", 14 BOUT "High current gate drive for the external MOSFETs", 15 VIN (power) "Input supply connection for this device.", 16 SHUTDOWN (in) "Provided for enhanced protection. When SHUTDOWN is driven above 1 V, AOUT and BOUT are forced low."

## UCC1806L
designator U?
Low-Power Dual-Output PWM Controller with Current Control, 50 % Duty Cycle, -55 to +125 degC, 20-pin LCCC (FK); PartNumber: UCC1806L; Manufacturer: Texas Instruments; Duty Cycle(Max)(%): 50; Eco-Plan: TBD; Frequency(Max)(kHz): 1000; Rating: Military; Regulated Outputs(#): 2; Topology: Boost, Flyback, Forward; UVLO Thresholds On/Off(V): 7.5/6.75; DatasheetVersion: SLUS272F; PackageVersion: revD, Jan-2011; PackageReference: FK20; PackageDescription: 20-Pin Leadless Ceramic Chip Carrier, 1.27 mm Pitch; Control Method: Current; SubFamily: PWM Controller; Mounting Technology: Surface Mount; Code_JEDEC: MS-004; ComponentLink1Description: Datasheet; ComponentLink1URL: http://www.ti.com/general/docs/lit/getliterature.tsp?genericPartNumber=UCC1806&fileType=pdf
footprint FK20_N (Leadless Chip Carrier, 20-Leads, Body 8.9x8.9mm, Pitch 1.27mm, IPC Medium Density)
footprint FK20_L (Leadless Chip Carrier, 20-Leads, Body 8.9x8.9mm, Pitch 1.27mm, IPC High Density)
footprint FK20_M (Leadless Chip Carrier, 20-Leads, Body 8.9x8.9mm, Pitch 1.27mm, IPC Low Density)
pins: 1 NC "No connection", 2 CURLIM (in) "Programs the primary current limit threshold that determins latching or retry after an overcurrent situation", 3 VREF (out) "Reference output.", 4 CS- (in) "Inverting input of the 3x, differential current sense amplifier", 5 CS+ (in) "Non-inverting input of the 3x, differential current sense amplifier", 6 NC "No connection", 7 NI (in) "Non-nverting input of the error amplifier.", 8 INV (in) "Inverting input of the error amplifier.", 9 COMP "Output of the error amplifier", 10 CT "Oscillator timing capacitor connection point", 11 NC "No connection", 12 RT "Connection point for the oscillator timing resistor", 13 SYNC (io) "Allows providing external synchronization with TTL compatible thresholds.", 14 AOUT (out) "High current gate drive for the external MOSFETs", 15 GND (power) "Reference ground and power ground for all functions of this device", 16 NC "No connection", 17 VC (power) "Input supply connection for the FET drive outputs.", 18 BOUT (out) "High current gate drive for the external MOSFETs", 19 VIN (power) "Input supply connection for this device.", 20 SHUTDOWN (in) "Provided for enhanced protection. When SHUTDOWN is driven above 1 V, AOUT and BOUT are forced low."

## UCC1806L883B
designator U?
Low-Power Dual-Output PWM Controller with Current Control, 50 % Duty Cycle, -55 to +125 degC, 20-pin LCCC (FK); PartNumber: UCC1806L883B; Manufacturer: Texas Instruments; Duty Cycle(Max)(%): 50; Eco-Plan: TBD; Frequency(Max)(kHz): 1000; Rating: Military; Regulated Outputs(#): 2; Topology: Boost, Flyback, Forward; UVLO Thresholds On/Off(V): 7.5/6.75; DatasheetVersion: SLUS272F; PackageVersion: revD, Jan-2011; PackageReference: FK20; PackageDescription: 20-Pin Leadless Ceramic Chip Carrier, 1.27 mm Pitch; Control Method: Current; SubFamily: PWM Controller; Mounting Technology: Surface Mount; Code_JEDEC: MS-004; ComponentLink1Description: Datasheet; ComponentLink1URL: http://www.ti.com/general/docs/lit/getliterature.tsp?genericPartNumber=UCC1806&fileType=pdf
footprint FK20_N (Leadless Chip Carrier, 20-Leads, Body 8.9x8.9mm, Pitch 1.27mm, IPC Medium Density)
footprint FK20_L (Leadless Chip Carrier, 20-Leads, Body 8.9x8.9mm, Pitch 1.27mm, IPC High Density)
footprint FK20_M (Leadless Chip Carrier, 20-Leads, Body 8.9x8.9mm, Pitch 1.27mm, IPC Low Density)
pins: 1 NC "No connection", 2 CURLIM (in) "Programs the primary current limit threshold that determins latching or retry after an overcurrent situation", 3 VREF (out) "Reference output.", 4 CS- (in) "Inverting input of the 3x, differential current sense amplifier", 5 CS+ (in) "Non-inverting input of the 3x, differential current sense amplifier", 6 NC "No connection", 7 NI (in) "Non-nverting input of the error amplifier.", 8 INV (in) "Inverting input of the error amplifier.", 9 COMP "Output of the error amplifier", 10 CT "Oscillator timing capacitor connection point", 11 NC "No connection", 12 RT "Connection point for the oscillator timing resistor", 13 SYNC (io) "Allows providing external synchronization with TTL compatible thresholds.", 14 AOUT (out) "High current gate drive for the external MOSFETs", 15 GND (power) "Reference ground and power ground for all functions of this device", 16 NC "No connection", 17 VC (power) "Input supply connection for the FET drive outputs.", 18 BOUT (out) "High current gate drive for the external MOSFETs", 19 VIN (power) "Input supply connection for this device.", 20 SHUTDOWN (in) "Provided for enhanced protection. When SHUTDOWN is driven above 1 V, AOUT and BOUT are forced low."

## UCC1895J
designator U?
BiCMOS Advanced Phase-Shift PWM Controller with Current, Voltage Control, 100 % Duty Cycle, -55 to +125 degC, 20-pin CDIP (J); PartNumber: UCC1895J; Manufacturer: Texas Instruments; Duty Cycle(Max)(%): 100; Eco-Plan: TBD; Frequency(Max)(kHz): 1000; Rating: Military; Regulated Outputs(#): 4; Topology: Full-Bridge; UVLO Thresholds On/Off(V): 11/9; DatasheetVersion: SLUS157O; PackageVersion: revF, Mar-2003; PackageReference: J20; PackageDescription: 20-Pin, Ceramic Dual In-Line Package, Row Spacing 7.62 mm, Pitch 2.54 mm; Control Method: Current, Voltage; SubFamily: PWM Controller; Mounting Technology: Through Hole; ComponentLink1Description: Datasheet; ComponentLink1URL: http://www.ti.com/general/docs/lit/getliterature.tsp?genericPartNumber=UCC1895&fileType=pdf
footprint J20 (DIP, 20-Leads, Row Spacing 7.62mm, Pitch 2.54mm, Body 26.9x6.9mm)
pins: 1 EAN (in) "Inverting input to the error amplifier. Keep below 3.6 volts for proper operation.", 2 EAOUT (out) "Error amplifier output.", 3 RAMP (in) "Inverting input of the PWM comparator.", 4 REF (out) "5 V, +/-1.2%, 5 mA voltage reference. For best performance, bypass with a 0.1-uF low ESR, low ESL capacitor to ground. Do not use more than 4.7 uF of total capacitance on this pin.", 5 GND (power) "Chip ground for all circuits except the output stages.", 6 SYNC (io) "Oscillator synchronization. This pin is bidirectional.", 7 CT "Oscillator timing capacitor for programming the switching frequency. The UCC3895’s oscillator charges CT via a programmed current.", 8 RT "Oscillator timing resistor for programming the switching frequency.", 9 DELAB (in) "Delay programming between complementary outputs. DELAB programs the dead time between switching of output A and output B.", 10 DELCD (in) "Delay programming between complementary outputs. DELCD programs the dead time between switching of output C and output D.", 11 ADS (in) "Adaptive delay set. Sets the ratio between the maximum and minimum programmed output delay dead time.", 12 CS (in) "Current sense input for cycle-by-cycle current limiting and for over-current comparator.", 13 OUTD (out) "The four outputs are 100-mA complementary MOS drivers, and are optimized to drive FET driver circuits such as UCC27424 or gate drive transformers.", 14 OUTC (out) "The four outputs are 100-mA complementary MOS drivers, and are optimized to drive FET driver circuits such as UCC27424 or gate drive transformers.", 15 VDD (power) "Power supply input pin. VDD must be bypassed with a minimum of a 1.0-uF low ESR, low ESL capacitor to ground. The addition of a 10--uF low ESR, low ESL between VDD and PGND is recommended.", 16 PGND (power) "Output stage ground.", 17 OUTB (out) "The four outputs are 100-mA complementary MOS drivers, and are optimized to drive FET driver circuits such as UCC27424 or gate drive transformers.", 18 OUTA (out) "The four outputs are 100-mA complementary MOS drivers, and are optimized to drive FET driver circuits such as UCC27424 or gate drive transformers.", 19 SS/DISB (in) "Soft-start/disable. This pin combines the two independent functions.", 20 EAP (in) "Non-inverting input to the error amplifier. Keep below 3.6 volts for proper operation."

## UCC1895L
designator U?
BiCMOS Advanced Phase-Shift PWM Controller with Current, Voltage Control, 100 % Duty Cycle, -55 to 125 degC, 20-pin LCCC (FK); PartNumber: UCC1895L; Manufacturer: Texas Instruments; Duty Cycle(Max)(%): 100; Eco-Plan: TBD; Frequency(Max)(kHz): 1000; Rating: Military; Regulated Outputs(#): 4; Topology: Full-Bridge; UVLO Thresholds On/Off(V): 11/9; DatasheetVersion: SLUS157O; PackageVersion: revD, Jan-2011; PackageReference: FK20; PackageDescription: 20-Pin Leadless Ceramic Chip Carrier, 1.27 mm Pitch; Control Method: Current, Voltage; SubFamily: PWM Controller; Mounting Technology: Surface Mount; Code_JEDEC: MS-004; ComponentLink1Description: Datasheet; ComponentLink1URL: http://www.ti.com/general/docs/lit/getliterature.tsp?genericPartNumber=UCC1895&fileType=pdf
footprint FK20_N (Leadless Chip Carrier, 20-Leads, Body 8.9x8.9mm, Pitch 1.27mm, IPC Medium Density)
footprint FK20_L (Leadless Chip Carrier, 20-Leads, Body 8.9x8.9mm, Pitch 1.27mm, IPC High Density)
footprint FK20_M (Leadless Chip Carrier, 20-Leads, Body 8.9x8.9mm, Pitch 1.27mm, IPC Low Density)
pins: 1 EAN (in) "Inverting input to the error amplifier. Keep below 3.6 volts for proper operation.", 2 EAOUT (out) "Error amplifier output.", 3 RAMP (in) "Inverting input of the PWM comparator.", 4 REF (out) "5 V, +/-1.2%, 5 mA voltage reference. For best performance, bypass with a 0.1-uF low ESR, low ESL capacitor to ground. Do not use more than 4.7 uF of total capacitance on this pin.", 5 GND (power) "Chip ground for all circuits except the output stages.", 6 SYNC (io) "Oscillator synchronization. This pin is bidirectional", 7 CT "Oscillator timing capacitor for programming the switching frequency. The UCC3895’s oscillator charges CT via a programmed current.", 8 RT "Oscillator timing resistor for programming the switching frequency.", 9 DELAB (in) "Delay programming between complementary outputs. DELAB programs the dead time between switching of output A and output B.", 10 DELCD (in) "Delay programming between complementary outputs. DELCD programs the dead time between switching of output C and output D.", 11 ADS (in) "Adaptive delay set. Sets the ratio between the maximum and minimum programmed output delay dead time.", 12 CS (in) "Current sense input for cycle-by-cycle current limiting and for over-current comparator.", 13 OUTD (out) "The four outputs are 100-mA complementary MOS drivers, and are optimized to drive FET driver circuits such as UCC27424 or gate drive transformers.", 14 OUTC (out) "The four outputs are 100-mA complementary MOS drivers, and are optimized to drive FET driver circuits such as UCC27424 or gate drive transformers.", 15 VDD (power) "Power supply input pin. VDD must be bypassed with a minimum of a 1.0-uF low ESR, low ESL capacitor to ground. The addition of a 10--uF low ESR, low ESL between VDD and PGND is recommended.", 16 PGND (power) "Output stage ground.", 17 OUTB (out) "The four outputs are 100-mA complementary MOS drivers, and are optimized to drive FET driver circuits such as UCC27424 or gate drive transformers.", 18 OUTA (out) "The four outputs are 100-mA complementary MOS drivers, and are optimized to drive FET driver circuits such as UCC27424 or gate drive transformers.", 19 SS/DISB (in) "Soft-start/disable. This pin combines the two independent functions.", 20 EAP (in) "Non-inverting input to the error amplifier. Keep below 3.6 volts for proper operation."

## UCC2808AQDR-1EP
designator U?
Low Power Push-Pull PWM with Current Control, 50 % Duty Cycle, -40 to +125 degC, 8-pin SOIC (D), Green (RoHS & no Sb/Br); PartNumber: UCC2808AQDR-1EP; Manufacturer: Texas Instruments; Duty Cycle(Max)(%): 50; Frequency(Max)(kHz): 1000; Rating: HiRel Enhanced Product; Regulated Outputs(#): 2; SubFamily: PWM Controller; UVLO Thresholds On/Off(V): 12.5/8.3; DatasheetVersion: SGLS187A; PackageVersion: revM, Jun-2011; PackageReference: D8; PackageDescription: 8-Pin Plastic Small Outline Integrated Circuit, 4.9 x 3.9 mm, Pitch 1.27 mm Pitch; Supplier 1: Arrow; Supplier Part Number 1: 40206642S6587255N7713; Supplier 2: Digi-Key; Supplier Part Number 2: 296-18742-2-ND; Supplier 3: Digi-Key; Supplier Part Number 3: 296-18742-1-ND; Supplier 4: Digi-Key; Supplier Part Number 4: 296-18742-6-ND; Supplier 5: Newark; Supplier Part Number 5: 46M1384; Supplier 6: Mouser; Supplier Part Number 6: 595-UCC2808AQDR-1EP; Control Method: Current; Eco-Plan: Green (RoHS & no Sb/Br); Mounting Technology: Surface Mount; Code_JEDEC: MS-012AA; ComponentLink1Description: Datasheet; ComponentLink1URL: http://www.ti.com/general/docs/lit/getliterature.tsp?genericPartNumber=UCC2808A-1EP&fileType=pdf
footprint D8_N (SOIC, 8-Leads, Body 4.9x3.9mm, Pitch 1.27mm, IPC Medium Density)
footprint D8_L (SOIC, 8-Leads, Body 4.9x3.9mm, Pitch 1.27mm, IPC High Density)
footprint D8_M (SOIC, 8-Leads, Body 4.9x3.9mm, Pitch 1.27mm, IPC Low Density)
pins: 1 COMP "COMP is the output of the error amplifier and the input of the PWM comparator. The error amplifier in the UCC2808A is a true low-output impedance, 2-MHz operational amplifier. As such, the COMP pin can both source and sink (See Datasheet)", 2 FB (in) "The inverting input to the error amplifier. For best stability, keep FB lead length as short as possible and FB stray capacitance as small as possible.", 3 CS (in) "The input to the PWM,  peak current, and overcurrent comparators. The overcurrent comparator is only intended for fault sensing. Exceeding the overcurrent threshold will cause a soft start cycle. An internal MOSFET (See Datasheet)", 4 RC "The oscillator programming pin.", 5 GND (power) "Reference ground and power ground for all functions. Due to high currents, and high frequency operation of the UCC2808A, a low impedance circuit board ground plane is highly recommended.", 6 OUTB (out) "Alternating high current output stages. Both stages are capable of driving the gate of a power MOSFET. Each stage is capable of 500-mA peak-source current, and 1-A peak-sink current.", 7 OUTA (out) "Alternating high current output stages. Both stages are capable of driving the gate of a power MOSFET. Each stage is capable of 500-mA peak-source current, and 1-A peak-sink current.", 8 VDD (power) "The power input connection for this device."

## UCC2808AQDR-1G4Q1
designator U?
Low Power Current Mode Push-Pull PWM with Current Control, 50 % Duty Cycle, -40 to +125 degC, 8-pin SOIC (D), Green (RoHS & no Sb/Br); PartNumber: UCC2808AQDR-1G4Q1; Manufacturer: Texas Instruments; Duty Cycle(Max)(%): 50; Frequency(Max)(kHz): 1000; Rating: Automotive; Regulated Outputs(#): 2; SubFamily: PWM Controller; UVLO Thresholds On/Off(V): 12.5/8.3; DatasheetVersion: SGLS183A; PackageVersion: revM, Jun-2011; PackageReference: D8; PackageDescription: 8-Pin Plastic Small Outline Integrated Circuit, 4.9 x 3.9 mm, Pitch 1.27 mm Pitch; Supplier 1: Digi-Key; Supplier Part Number 1: 296-32000-2-ND; Supplier 2: Digi-Key; Supplier Part Number 2: 296-32000-1-ND; Supplier 3: Digi-Key; Supplier Part Number 3: 296-32000-6-ND; Supplier 4: Mouser; Supplier Part Number 4: 595-UCC2808AQDR1G4Q1; Control Method: Current; Eco-Plan: Green (RoHS & no Sb/Br); Mounting Technology: Surface Mount; Code_JEDEC: MS-012AA; ComponentLink1Description: Datasheet; ComponentLink1URL: http://www.ti.com/general/docs/lit/getliterature.tsp?genericPartNumber=UCC2808A-1Q1&fileType=pdf
footprint D8_N (SOIC, 8-Leads, Body 4.9x3.9mm, Pitch 1.27mm, IPC Medium Density)
footprint D8_L (SOIC, 8-Leads, Body 4.9x3.9mm, Pitch 1.27mm, IPC High Density)
footprint D8_M (SOIC, 8-Leads, Body 4.9x3.9mm, Pitch 1.27mm, IPC Low Density)
pins: 1 COMP "COMP is the output of the error amplifier and the input of the PWM comparator. The error amplifier in the UCC2808A is a true low-output impedance, 2-MHz operational amplifier. As such, the COMP pin can both source and sink (See Datasheet)", 2 FB (in) "The inverting input to the error amplifier. For best stability, keep FB lead length as short as possible and FB stray capacitance as small as possible.", 3 CS (in) "The input to the PWM, peak current, and overcurrent comparators. The overcurrent comparator is only intended for fault sensing. Exceeding the overcurrent threshold will cause a soft start cycle. An internal MOSFET discharges (See Datasheet)", 4 RC "The oscillator programming pin. The UCC2808A’s oscillator tracks VDD and GND internally, so that variations in power supply rails minimally affect frequency stability. Figure 1 shows the oscillator block diagram.", 5 GND (power) "Reference ground and power ground for all functions. Due to high currents, and high frequency operation of the UCC2808A, a low impedance circuit board ground plane is highly recommended.", 6 OUTB (out) "Alternating high current output stages. Both stages are capable of driving the gate of a power MOSFET. Each stage is capable of 500-mA peak-source current, and 1-A peak-sink current.", 7 OUTA (out) "Alternating high current output stages. Both stages are capable of driving the gate of a power MOSFET. Each stage is capable of 500-mA peak-source current, and 1-A peak-sink current.", 8 VDD (power) "The power input connection for this device. Although quiescent VDD current is very low, total supply current will be higher, depending on OUTA and OUTB current, and the programmed oscillator frequency. Total VDD current is (See Datasheet)"